# EAGLE library part MAX31855 (library Pod3 Lib)
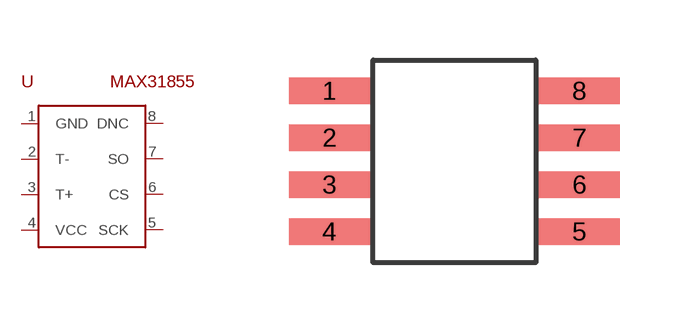
[diagram p2: symbol with the pads of MAX31855; footprint MAX31855]

Designator prefix -

## MAX31855  [MAX31855]
1  GND
2  T-
3  T+
4  VCC
5  SCK
6  CS
7  SO
8  DNC

## Footprint MAX31855 (pad centres in mm)
smd 2.032 x 0.66: 1 -3.127,1.761; 2 -3.127,0.587; 3 -3.127,-0.587; 4 -3.127,-1.761; 5 3.127,-1.761; 6 3.127,-0.587; 7 3.127,0.587; 8 3.127,1.761